# Altium schematic symbol library B3202X.SchLib: 40 symbols
Pins are listed as number, name and electrical type; pins without a type are passive.

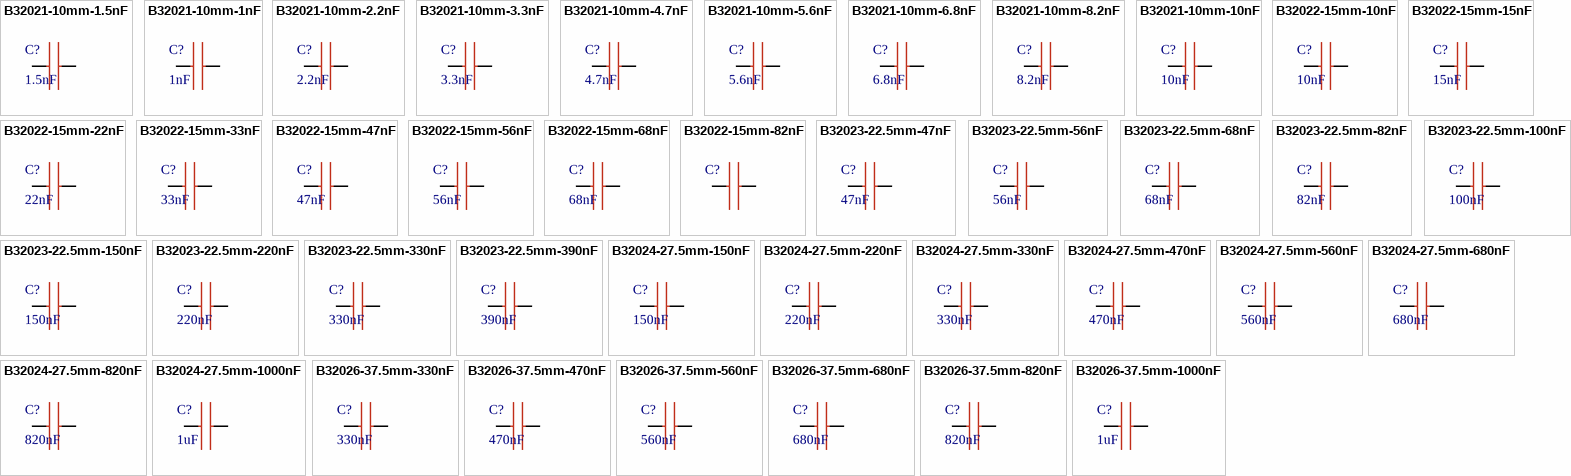
[diagram p0: symbols B32021-10mm-1.5nF to B32026-37.5mm-1000nF]

## B32021-10mm-1.5nF
designator C?, comment 1.5nF
pins: 1, 2

## B32021-10mm-1nF
designator C?, comment 1nF
pins: 1, 2

## B32021-10mm-2.2nF
designator C?, comment 2.2nF
pins: 1, 2

## B32021-10mm-3.3nF
designator C?, comment 3.3nF
pins: 1, 2

## B32021-10mm-4.7nF
designator C?, comment 4.7nF
pins: 1, 2

## B32021-10mm-5.6nF
designator C?, comment 5.6nF
pins: 1, 2

## B32021-10mm-6.8nF
designator C?, comment 6.8nF
footprint 10_5_11_13
pins: 1, 2

## B32021-10mm-8.2nF
designator C?, comment 8.2nF
pins: 1, 2

## B32021-10mm-10nF
designator C?, comment 10nF
pins: 1, 2

## B32022-15mm-10nF
designator C?, comment 10nF
pins: 1, 2

## B32022-15mm-15nF
designator C?, comment 15nF
pins: 1, 2

## B32022-15mm-22nF
designator C?, comment 22nF
pins: 1, 2

## B32022-15mm-33nF
designator C?, comment 33nF
pins: 1, 2

## B32022-15mm-47nF
designator C?, comment 47nF
pins: 1, 2

## B32022-15mm-56nF
designator C?, comment 56nF
pins: 1, 2

## B32022-15mm-68nF
designator C?, comment 68nF
pins: 1, 2

## B32022-15mm-82nF
designator C?
pins: 1, 2

## B32023-22.5mm-47nF
designator C?, comment 47nF
pins: 1, 2

## B32023-22.5mm-56nF
designator C?, comment 56nF
pins: 1, 2

## B32023-22.5mm-68nF
designator C?, comment 68nF
pins: 1, 2

## B32023-22.5mm-82nF
designator C?, comment 82nF
pins: 1, 2

## B32023-22.5mm-100nF
designator C?, comment 100nF
pins: 1, 2

## B32023-22.5mm-150nF
designator C?, comment 150nF
pins: 1, 2

## B32023-22.5mm-220nF
designator C?, comment 220nF
pins: 1, 2

## B32023-22.5mm-330nF
designator C?, comment 330nF
pins: 1, 2

## B32023-22.5mm-390nF
designator C?, comment 390nF
pins: 1, 2

## B32024-27.5mm-150nF
designator C?, comment 150nF
pins: 1, 2

## B32024-27.5mm-220nF
designator C?, comment 220nF
pins: 1, 2

## B32024-27.5mm-330nF
designator C?, comment 330nF
pins: 1, 2

## B32024-27.5mm-470nF
designator C?, comment 470nF
pins: 1, 2

## B32024-27.5mm-560nF
designator C?, comment 560nF
pins: 1, 2

## B32024-27.5mm-680nF
designator C?, comment 680nF
pins: 1, 2

## B32024-27.5mm-820nF
designator C?, comment 820nF
pins: 1, 2

## B32024-27.5mm-1000nF
designator C?, comment 1uF
pins: 1, 2

## B32026-37.5mm-330nF
designator C?, comment 330nF
pins: 1, 2

## B32026-37.5mm-470nF
designator C?, comment 470nF
pins: 1, 2

## B32026-37.5mm-560nF
designator C?, comment 560nF
pins: 1, 2

## B32026-37.5mm-680nF
designator C?, comment 680nF
pins: 1, 2

## B32026-37.5mm-820nF
designator C?, comment 820nF
pins: 1, 2

## B32026-37.5mm-1000nF
designator C?, comment 1uF
pins: 1, 2